# EAGLE library part TI-ADS7828 (library FaBo-ADC)
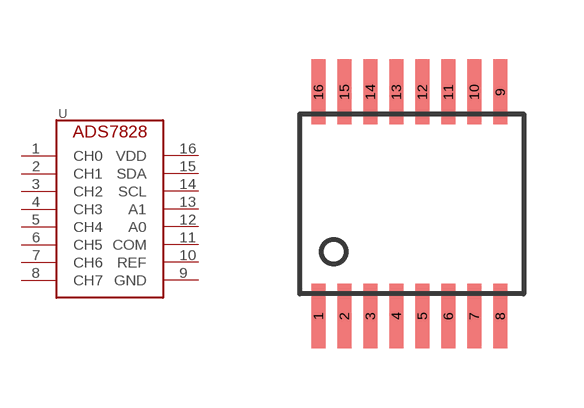
[diagram p0: symbol with the pads of TI-ADS7828; footprint TI-ADS7828]

Designator prefix -

## TI-ADS7828  [TI-ADS7828]
1  CH0
2  CH1
3  CH2
4  CH3
5  CH4
6  CH5
7  CH6
8  CH7
9  GND
10  REF
11  COM
12  A0
13  A1
14  SCL
15  SDA
16  VDD

## Footprint TI-ADS7828 (pad centres in mm)
smd 0.35 x 1.6: 1 -2.48,-2.8; 2 -1.83,-2.8; 3 -1.18,-2.8; 4 -0.53,-2.8; 5 0.12,-2.8; 6 0.77,-2.8; 7 1.42,-2.8; 8 2.07,-2.8; 9 2.07,2.8; 10 1.42,2.8; 11 0.77,2.8; 12 0.12,2.8; 13 -0.53,2.8; 14 -1.18,2.8; 15 -1.83,2.8; 16 -2.48,2.8